# Altium integrated library DIODE M7 DO-214AC RS2MA.IntLib: 1 symbol
Pins are listed as number, name and electrical type; pins without a type are passive.

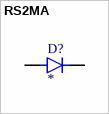
[diagram p0: symbol RS2MA]

## RS2MA
designator D?
1.5A, 50V - 1000V Fast Recovery Surface Mount Rectifier; MF: Taiwan Semiconductor; MP: RS2MA; SnapEDA_Link: https://www.snapeda.com/parts/RS2MA/Taiwan+Semiconductor/view-part/?ref=snap; Package: DO-214AC-2 Taiwan Semiconductor; Value: *; Check_prices: https://www.snapeda.com/parts/RS2MA/Taiwan+Semiconductor/view-part/?ref=eda
footprint DIOM4325X250N
pins: A, C K